# EAGLE library part HOME_AT_BOARD_V2 (library HOME_Automation)
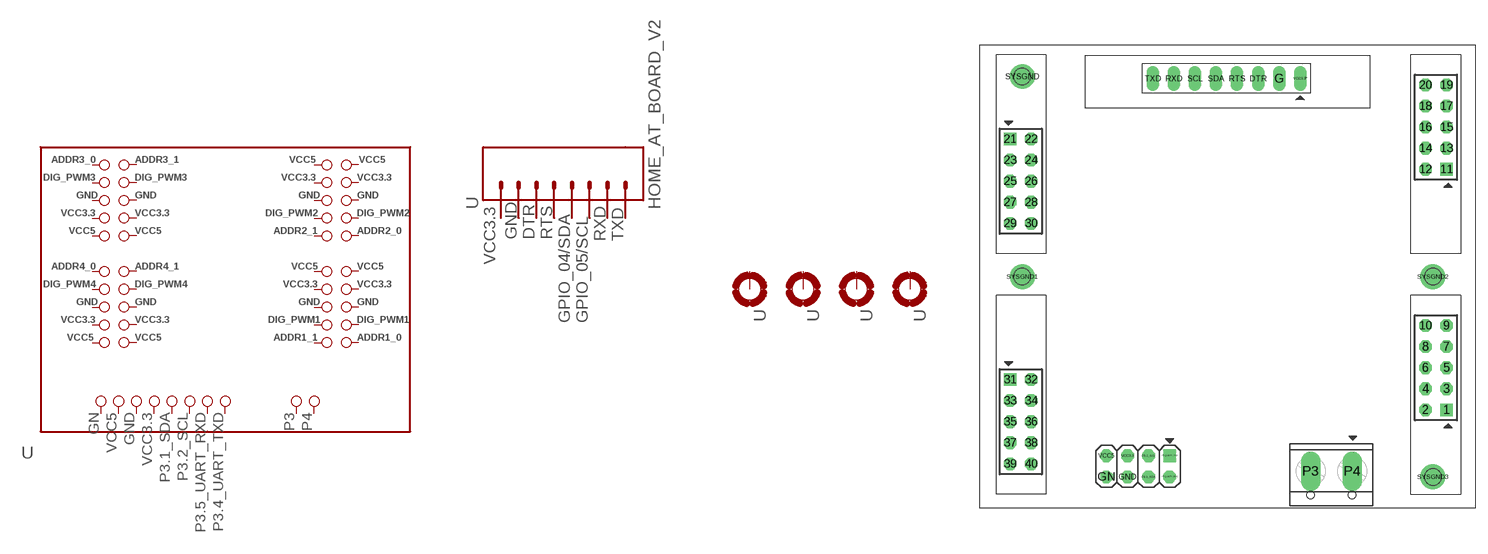
[diagram p8: symbol with the pads of HOME_AT_MAINBOARD_V2; footprint HOME_AT_MAINBOARD_V2]

Designator prefix -

## HOME_AT_BOARD_V2  [HOME_AT_MAINBOARD_V2]
1  1  pas
2  2  pas
3  3  pas
4  4  pas
5  5  pas
6  6  pas
7  7  pas
8  8  pas
9  9  pas
10  10  pas
11  11  pas
12  12  pas
13  13  pas
14  14  pas
15  15  pas
16  16  pas
17  17  pas
18  18  pas
19  19  pas
20  20  pas
21  21  pas
22  22  pas
23  23  pas
24  24  pas
25  25  pas
26  26  pas
27  27  pas
28  28  pas
29  29  pas
30  30  pas
31  31  pas
32  32  pas
33  33  pas
34  34  pas
35  35  pas
36  36  pas
37  37  pas
38  38  pas
39  39  pas
40  40  pas
DTR  DTR
G  GND1
GN  GN  pas
GND  GND  pas
P3  P3  pas
P3.1_SDA  P3.1_SDA  pas
P3.2_SCL  P3.2_SCL  pas
P3.4_UART_TXD  P3.4_UART_TXD  pas
P3.5_UART_RXD  P3.5_UART_RXD  pas
P4  P4  pas
RTS  RTS
RXD  RXD
SCL  GPIO_05/SCL
SDA  GPIO_04/SDA
SYSGND  MOUNT  pas
SYSGND1  MOUNT1  pas
SYSGND2  MOUNT2  pas
SYSGND3  MOUNT3  pas
TXD  TXD
VCC3.3  VCC3.3  pas
VCC3.3*  VCC3.1
VCC5  VCC5  pas

## Footprint HOME_AT_MAINBOARD_V2 (pad centres in mm)
drill 1.016 square: 1 54.988,11.886; 11 54.988,40.886; 21 2.352,44.534; 31 2.352,15.534; P3.4_UART_TXD 21.59,6.35
drill 1.016 octagon: 2 52.448,11.886; 3 54.988,14.426; 4 52.448,14.426; 5 54.988,16.966; 6 52.448,16.966; 7 54.988,19.506; 8 52.448,19.506; 9 54.988,22.046; 10 52.448,22.046; 12 52.448,40.886; 13 54.988,43.426; 14 52.448,43.426; 15 54.988,45.966; 16 52.448,45.966; 17 54.988,48.506; 18 52.448,48.506; 19 54.988,51.046; 20 52.448,51.046; 22 4.892,44.534; 23 2.352,41.994; 24 4.892,41.994; 25 2.352,39.454; 26 4.892,39.454; 27 2.352,36.914; 28 4.892,36.914; 29 2.352,34.374; 30 4.892,34.374; 32 4.892,15.534; 33 2.352,12.994; 34 4.892,12.994; 35 2.352,10.454; 36 4.892,10.454; 37 2.352,7.914; 38 4.892,7.914; 39 2.352,5.374; 40 4.892,5.374; GN 13.97,3.81; GND 16.51,3.81; P3.1_SDA 19.05,3.81; P3.2_SCL 19.05,6.35; P3.5_UART_RXD 21.59,3.81; VCC3.3 16.51,6.35; VCC5 13.97,6.35
drill 1.016 long: DTR 32.258,51.816; G 34.798,51.816; RTS 29.718,51.816; RXD 22.098,51.816; SCL 24.638,51.816; SDA 27.178,51.816; TXD 19.558,51.816; VCC3.3* 37.338,51.816
drill 1.4 pad 2.38 long: P3 38.592,4.498; P4 43.592,4.498
drill 2: SYSGND 3.81,52.07; SYSGND1 3.81,27.94; SYSGND2 53.34,27.94; SYSGND3 53.34,3.81
hole 2 at 53.34,3.81
hole 2 at 3.81,27.94
hole 2 at 3.81,52.07
hole 2 at 53.34,27.94